# Altium footprint library PcbLib1.PcbLib: 20 footprints (part 1 of 2)
Each footprint in its own frame and in the unit in brackets; x right, y up, seen from the top. Pads: shape width x height; smd on the part's side, far side on the other; paste and mask are expansions set on the pad; w line width, h text height; cw(c..) or ccw(c..) is an arc to the next point about the centre after c.
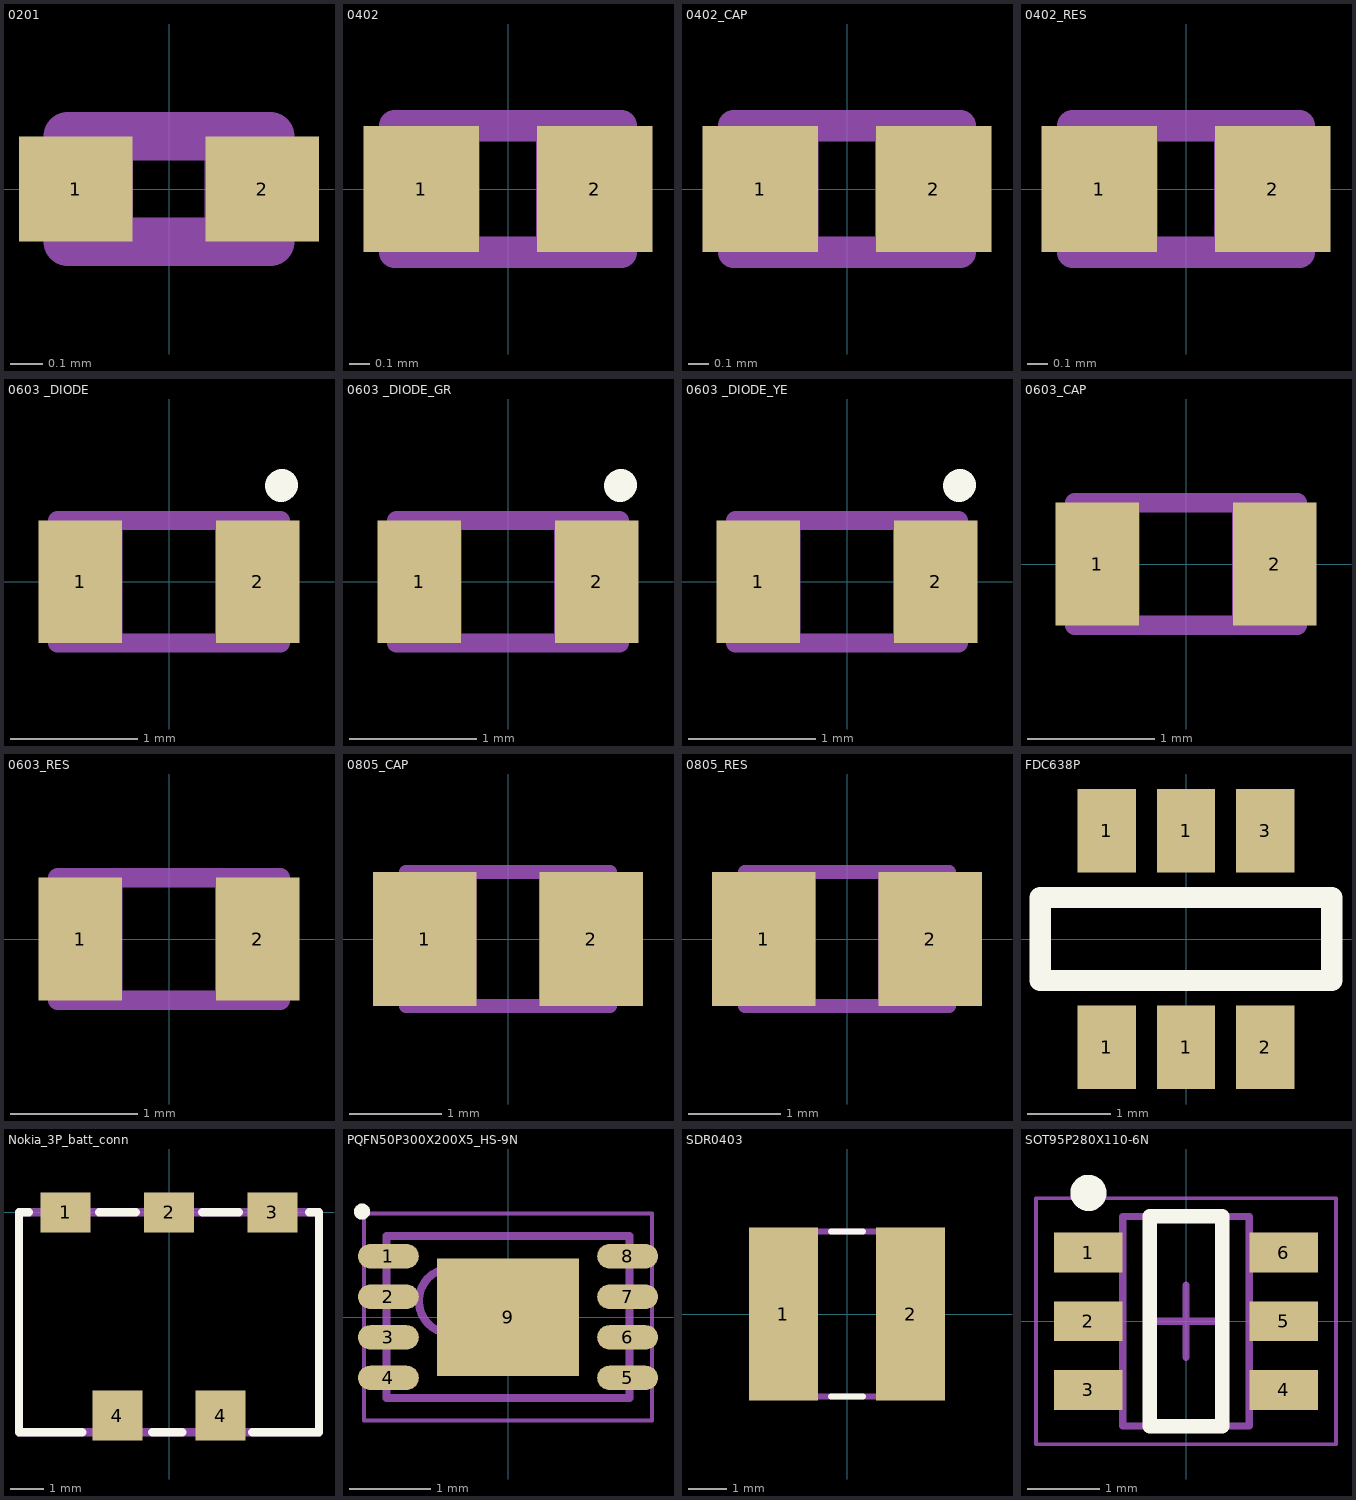
[diagram p0: the footprints below, top view; thin cyan lines are the x and y axes]

## 0201 [mil]
height 13
pads (2):
  rect 14x13 smd: 1(-11.5,0) 2(11.5,0)
Mechanical 1:
  lines w6: -12.5,-6.5 -12.5,6.5 12.5,6.5 12.5,-6.5 -12.5,-6.5
Mechanical 13:
  lines w0: -12.5,-6.5 -12.5,6.5 ; -12.5,-6.5 -4.5,-6.5 -4.5,6.5 -12.5,6.5 ; -12.5,-6.5 12.5,-6.5 ; -12.5,-6.5 -12.5,6.5 ; -12.5,6.5 12.5,6.5 ; 12.5,-6.5 4.5,-6.5 4.5,6.5 12.5,6.5 ; 12.5,-6.5 12.5,6.5 ; 12.5,-6.5 12.5,6.5

## 0402 [mil]
height 22
pads (2):
  rect 22x24 smd: 1(-16.5,0) 2(16.5,0)
Mechanical 1:
  lines w6: -21.5,-12 21.5,-12 21.5,12 -21.5,12 -21.5,-12
Mechanical 13:
  lines w0: 5.5,12 5.5,-12 21.5,-12 ; -21.5,-12 -21.5,12 ; -21.5,-12 21.5,-12 ; -21.5,-12 -5.5,-12 -5.5,12 -21.5,12 ; -21.5,-12 -21.5,12 ; -21.5,12 21.5,12 ; 21.5,-12 21.5,12 ; 21.5,-12 21.5,12

## 0402_CAP [mil]
height 22
pads (2):
  rect 22x24 smd: 1(-16.5,0) 2(16.5,0)
Mechanical 1:
  lines w6: -21.5,-12 21.5,-12 21.5,12 -21.5,12 -21.5,-12
Mechanical 13:
  lines w0: 5.5,12 5.5,-12 21.5,-12 ; -21.5,-12 -21.5,12 ; -21.5,-12 21.5,-12 ; -21.5,-12 -5.5,-12 -5.5,12 -21.5,12 ; -21.5,-12 -21.5,12 ; -21.5,12 21.5,12 ; 21.5,-12 21.5,12 ; 21.5,-12 21.5,12
3D body: height 19.68, standoff 0, extent -19.69,-9.84 19.69,9.84

## 0402_RES [mil]
height 22
pads (2):
  rect 22x24 smd: 1(-16.5,0) 2(16.5,0)
Mechanical 1:
  lines w6: -21.5,-12 21.5,-12 21.5,12 -21.5,12 -21.5,-12
Mechanical 13:
  lines w0: 5.5,12 5.5,-12 21.5,-12 ; -21.5,-12 -21.5,12 ; -21.5,-12 21.5,-12 ; -21.5,-12 -5.5,-12 -5.5,12 -21.5,12 ; -21.5,-12 -21.5,12 ; -21.5,12 21.5,12 ; 21.5,-12 21.5,12 ; 21.5,-12 21.5,12
3D body: height 16.14, standoff 0, extent -22.64,-10.83 22.64,10.83

## 0603 _DIODE [mil]
height 20
pads (2):
  rect 26x38 smd: 1(-27.5,0) 2(27.5,0)
Top Overlay:
  lines w10: 34.74,29.74 35,30
Mechanical 1:
  lines w6: -34.5,-19 34.5,-19 34.5,19 -34.5,19 -34.5,-19
Mechanical 13:
  lines w0: 14.5,19 14.5,-19 34.5,-19 ; -34.5,-19 -34.5,19 ; -34.5,-19 34.5,-19 ; -34.5,-19 -14.5,-19 -14.5,19 -34.5,19 ; -34.5,-19 -34.5,19 ; -34.5,19 34.5,19 ; 34.5,-19 34.5,19 ; 34.5,-19 34.5,19

## 0603 _DIODE_GR [mil]
height 20
pads (2):
  rect 26x38 smd: 1(-27.5,0) 2(27.5,0)
Top Overlay:
  lines w10: 34.74,29.74 35,30
Mechanical 1:
  lines w6: -34.5,-19 34.5,-19 34.5,19 -34.5,19 -34.5,-19
Mechanical 13:
  lines w0: 14.5,19 14.5,-19 34.5,-19 ; -34.5,-19 -34.5,19 ; -34.5,-19 34.5,-19 ; -34.5,-19 -14.5,-19 -14.5,19 -34.5,19 ; -34.5,-19 -34.5,19 ; -34.5,19 34.5,19 ; 34.5,-19 34.5,19 ; 34.5,-19 34.5,19
3D body: height 43.31, standoff 0, extent -31.89,-15.75 31.89,15.75

## 0603 _DIODE_YE [mil]
height 20
pads (2):
  rect 26x38 smd: 1(-27.5,0) 2(27.5,0)
Top Overlay:
  lines w10: 34.74,29.74 35,30
Mechanical 1:
  lines w6: -34.5,-19 -34.5,19 34.5,19 34.5,-19 -34.5,-19
Mechanical 13:
  lines w0: 14.5,19 14.5,-19 34.5,-19 ; -34.5,-19 -34.5,19 ; -34.5,-19 -14.5,-19 -14.5,19 -34.5,19 ; -34.5,-19 34.5,-19 ; -34.5,-19 -34.5,19 ; -34.5,19 34.5,19 ; 34.5,-19 34.5,19 ; 34.5,-19 34.5,19
3D body: height 43.31, standoff 0, extent -31.89,-15.75 31.89,15.75

## 0603_CAP [mil]
height 20
pads (2):
  rect 26x38 smd: 1(-27.5,0) 2(27.5,0)
Mechanical 1:
  lines w6: -34.5,-19 34.5,-19 34.5,19 -34.5,19 -34.5,-19
Mechanical 13:
  lines w0: 14.5,19 14.5,-19 34.5,-19 ; -34.5,-19 -34.5,19 ; -34.5,-19 34.5,-19 ; -34.5,-19 -14.5,-19 -14.5,19 -34.5,19 ; -34.5,-19 -34.5,19 ; -34.5,19 34.5,19 ; 34.5,-19 34.5,19 ; 34.5,-19 34.5,19
3D body: height 23.62, standoff 0, extent -31.5,-15.75 31.5,15.75

## 0603_RES [mil]
height 20
pads (2):
  rect 26x38 smd: 1(-27.5,0) 2(27.5,0)
Mechanical 1:
  lines w6: -34.5,-19 34.5,-19 34.5,19 -34.5,19 -34.5,-19
Mechanical 13:
  lines w0: 14.5,19 14.5,-19 34.5,-19 ; -34.5,-19 -34.5,19 ; -34.5,-19 34.5,-19 ; -34.5,-19 -14.5,-19 -14.5,19 -34.5,19 ; -34.5,-19 -34.5,19 ; -34.5,19 34.5,19 ; 34.5,-19 34.5,19 ; 34.5,-19 34.5,19
3D body: height 22.05, standoff 0, extent -33.47,-15.75 33.47,15.75

## 0805_CAP [mil]
height 57
pads (2):
  rect 44x57 smd: 1(-35.5,0) 2(35.5,0)
Mechanical 1:
  lines w6: -43.5,-28.5 43.5,-28.5 43.5,28.5 -43.5,28.5 -43.5,-28.5
Mechanical 13:
  lines w0: 13.5,28.5 13.5,-28.5 43.5,-28.5 ; -43.5,-28.5 -43.5,28.5 ; -43.5,-28.5 43.5,-28.5 ; -43.5,-28.5 -13.5,-28.5 -13.5,28.5 -43.5,28.5 ; -43.5,-28.5 -43.5,28.5 ; -43.5,28.5 43.5,28.5 ; 43.5,-28.5 43.5,28.5 ; 43.5,-28.5 43.5,28.5
3D body: height 37.4, standoff 0, extent -39.37,-23.62 39.37,23.62

## 0805_RES [mil]
height 57
pads (2):
  rect 44x57 smd: 1(-35.5,0) 2(35.5,0)
Mechanical 1:
  lines w6: -43.5,-28.5 43.5,-28.5 43.5,28.5 -43.5,28.5 -43.5,-28.5
Mechanical 13:
  lines w0: 13.5,28.5 13.5,-28.5 43.5,-28.5 ; -43.5,-28.5 -43.5,28.5 ; -43.5,-28.5 43.5,-28.5 ; -43.5,-28.5 -13.5,-28.5 -13.5,28.5 -43.5,28.5 ; -43.5,-28.5 -43.5,28.5 ; -43.5,28.5 43.5,28.5 ; 43.5,-28.5 43.5,28.5 ; 43.5,-28.5 43.5,28.5
3D body: height 29.92, standoff 0, extent -45.28,-26.58 45.28,26.58

## FDC638P [mm]
pads (6):
  rect 0.7x1 smd: 1(-0.95,-1.3) 1(-0.95,1.3) 1(0,-1.3) 1(0,1.3) 2(0.95,-1.3) 3(0.95,1.3)
Top Overlay:
  lines w0.254: -1.75,-0.5 -1.75,0.5 1.75,0.5 1.75,-0.5 -1.75,-0.5
3D body: height 1.05, standoff 0, extent -1.5,-1.5 1.5,1.5

## Nokia_3P_batt_conn [mm]
pads (5):
  rect 1.5x1.2 smd: 1(-3.1,0) 2(0,0) 3(3.1,0)
  rect 1.5x1.5 smd: 4(-1.55,-6.1) 4(1.55,-6.1)
Top Overlay:
  lines w0.254: -4.2,0 -4.5,0 -4.5,-6.6 -2.6,-6.6 ; -2.1,0 -1,0 ; -0.5,-6.6 0.4,-6.6 ; 1,0 2.1,0 ; 2.5,-6.6 4.5,-6.6 4.5,0 4.2,0
Mechanical 1:
  lines w0.254: -4.5,-6.6 0,-6.6 4.5,-6.6 4.5,0 0,0 -4.5,0 -4.5,-6.6
3D body: height 4.3, standoff 0.01, extent -4.627,-6.727 4.627,0.127

## PQFN50P300X200X5_HS-9N [mm] "PQFN, 8-Leads, Body 3.00x2.00mm, Pitch 0.50mm, Thermal Pad 1.75x1.45mm, IPC Medium Density"
height 0.05
pads (9):
  oval 0.75x0.3 smd: 1(-1.475,0.75) 2(-1.475,0.25) 3(-1.475,-0.25) 4(-1.475,-0.75) 5(1.475,-0.75) 6(1.475,-0.25) 7(1.475,0.25) 8(1.475,0.75)
  rect 1.75x1.45 smd: 9(0,0)
Top Overlay:
  circle w0.1: c-1.8,1.3 r0.05
Mechanical 13:
  circle w0.1: c-0.7,0.2 r0.4
  lines w0.1: -1.5,-1 1.5,-1 1.5,1 -1.5,1 -1.5,-1
Mechanical 15:
  lines w0.05: -1.775,-1.275 1.775,-1.275 1.775,1.275 -1.775,1.275 -1.775,-1.275
  lines w0.1: -0.5,0 0.5,0 ; 0,-0.5 0,0.5
3D body: height 0.85, standoff 0.05, extent -1.55,-1 1.55,1

## SDR0403 [mil]
pads (2):
  rect 71x177 smd: 1(-65,0) 2(65,0)
Top Overlay:
  lines w6: -16.4,-84.5 16.4,-84.5 ; -16.4,84.5 16.4,84.5
Mechanical 1:
  lines w6: -94.5,-84.5 -94.5,84.5 94.5,84.5 94.5,-84.5 -94.5,-84.5
Mechanical 13:
  lines w0: -94.5,-84.5 -94.5,84.5 94.5,84.5 94.5,-84.5 -94.5,-84.5
3D body: height 127.95, standoff 0, extent -86.66,-88.58 86.66,88.58

## SOT95P280X110-6N [mm] "SOT23, 6-Leads, Body 2.90x2.80mm, Pitch 0.95mm, IPC Medium Density"
height 1.1
pads (6):
  rect 0.95x0.55 smd: 1(-1.35,0.95) 2(-1.35,0) 3(-1.35,-0.95) 4(1.35,-0.95) 5(1.35,0) 6(1.35,0.95)
Top Overlay:
  circle w0.25: c-1.35,1.775 r0.125
  lines w0.2: -0.5,-1.45 0.5,-1.45 0.5,1.45 -0.5,1.45 -0.5,-1.45
Mechanical 13:
  lines w0.1: -0.875,-1.45 -0.875,1.45 0.875,1.45 0.875,-1.45 -0.875,-1.45
Mechanical 15:
  lines w0.05: -2.075,-1.7 -2.075,1.7 2.075,1.7 2.075,-1.7 -2.075,-1.7
  lines w0.1: -0.5,0 0.5,0 ; 0,-0.5 0,0.5
3D body: height 1, standoff 0, extent -1.412,-1.45 1.412,1.45